# Altium schematic symbol library MSK-12C01-07.SchLib: 1 symbol
Pins are listed as number, name and electrical type; pins without a type are passive.

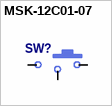
[diagram p0: symbol MSK-12C01-07]

## MSK-12C01-07
designator SW?  (value not drawn)
pins: 1, 2, 3